# EAGLE library part DS3234 (library SparkFun)
DS3234 Real Time Clock
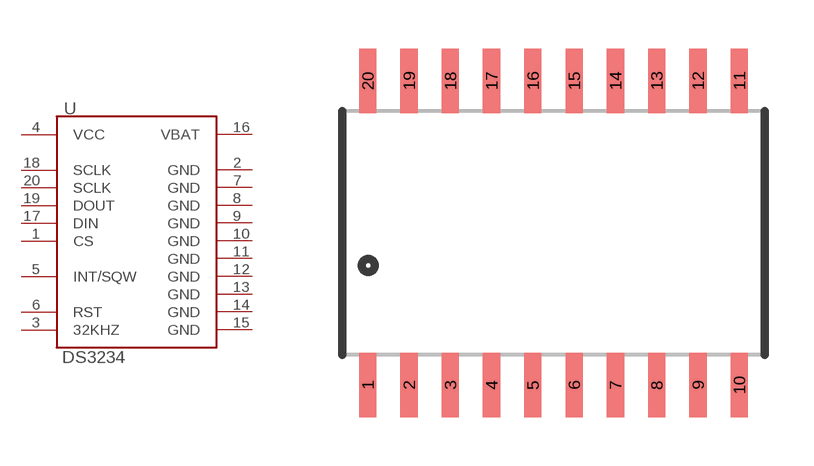
[diagram p327: symbol with the pads of DS3234; footprint DS3234]

Designator prefix -

## DS3234  [DS3234]
1  CS
2  GND
3  32KHZ
4  VCC
5  INT/SQW
6  RST
7  GND
8  GND
9  GND
10  GND
11  GND
12  GND
13  GND
14  GND
15  GND
16  VBAT
17  DIN
18  SCLK
19  DOUT
20  SCLK

## Footprint DS3234 (pad centres in mm)
smd 0.53 x 1.98: 1 -5.715,-4.685; 2 -4.445,-4.685; 3 -3.175,-4.685; 4 -1.905,-4.685; 5 -0.635,-4.685; 6 0.635,-4.685; 7 1.905,-4.685; 8 3.175,-4.685; 9 4.445,-4.685; 10 5.715,-4.685; 11 5.715,4.685; 12 4.445,4.685; 13 3.175,4.685; 14 1.905,4.685; 15 0.635,4.685; 16 -0.635,4.685; 17 -1.905,4.685; 18 -3.175,4.685; 19 -4.445,4.685; 20 -5.715,4.685